# Altium footprint library RES.PcbLib: 37 footprints (part 3 of 3)
Each footprint in its own frame and in the unit in brackets; x right, y up, seen from the top. Pads: shape width x height; smd on the part's side, far side on the other; paste and mask are expansions set on the pad; w line width, h text height; cw(c..) or ccw(c..) is an arc to the next point about the centre after c.
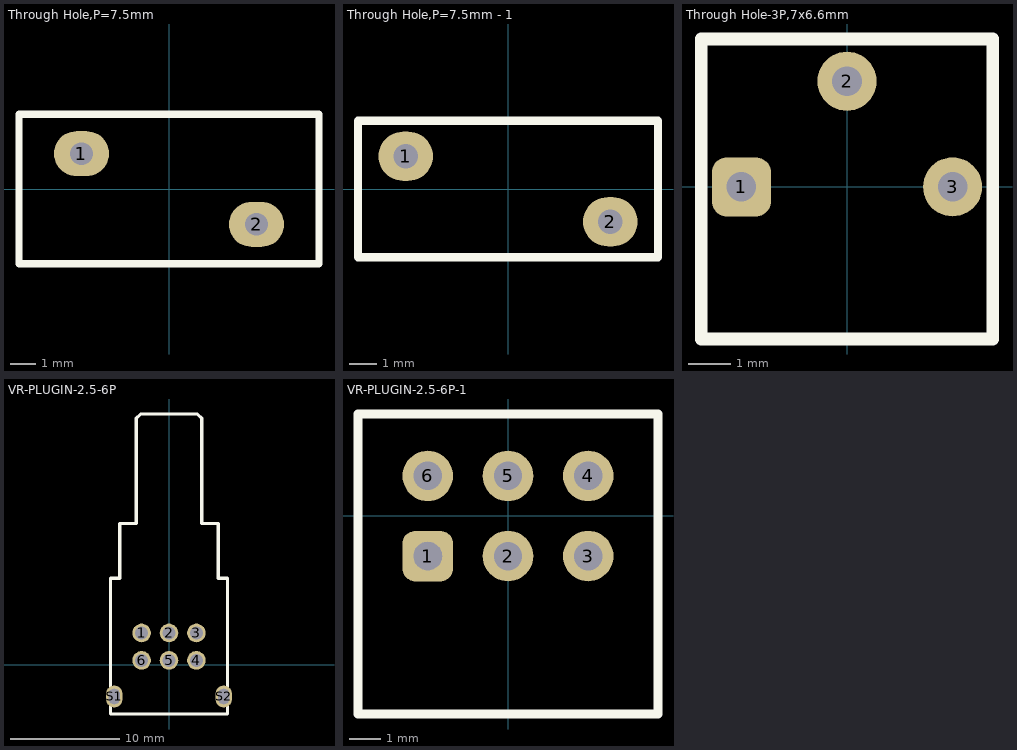
[diagram p2: the footprints below, top view; thin cyan lines are the x and y axes]

## Through Hole,P=7.5mm [mm]
pads (2):
  oval 2.2x1.8 hole 0.9 mask+0.2: 1(-3.5,1.415) 2(3.5,-1.415)
Top Overlay:
  lines w0.3: -6,-3 -6,3 6,3 6,-3 -6,-3
3D body "MOV-10D561K.step": height 16.5, standoff -16, extent -6.436,-2.695 6.436,2.695

## Through Hole,P=7.5mm - 1 [mm]
height 15.5
pads (2):
  oval 2x1.8 hole 0.9: 1(-3.75,1.2) 2(3.75,-1.2)
Top Overlay:
  lines w0.3: -5.5,-2.5 -5.5,2.5 5.5,2.5 5.5,-2.5 -5.5,-2.5

## Through Hole-3P,7x6.6mm [mm]
pads (3):
  rrect50% 1.4x1.4 hole 0.7: 1(-2.5,0)
  round 1.4 hole 0.7: 2(0,2.5) 3(2.5,0)
Top Overlay:
  lines w0.3: 1,3.5 3.45,3.5 ; 3.45,3.5 -3.45,3.5 -3.45,-3.6 3.45,-3.6 3.45,3.5
3D body "3362P-1-103--3DModel-STEP-56544.STEP": height 4.88, standoff -5.84, extent -3.3,-3.495 3.3,3.495

## VR-PLUGIN-2.5-6P [mm]
pads (8):
  round 1.7 hole 1.2: 1(-2.5,2.9) 2(0,2.9) 3(2.5,2.9) 4(2.5,0.4) 5(0,0.4) 6(-2.5,0.4)
  oval 1.5x2 hole 1 slot 1.4 at 90 deg: S1(-5,-2.9) S2(5,-2.9)
Top Overlay:
  lines w0.3: -5.35,-4.5 -5.35,7.9 -4.5,7.9 -4.5,12.9 -3,12.9 -3,22.5 -2.6,22.9 2.6,22.9 3,22.5 3,12.9 4.5,12.9 4.5,7.9 5.35,7.9 5.35,-4.5 -5.35,-4.5
3D body "rk09l12b0a31.stp": height 11.85, standoff -3.05, extent -6.05,-4.5 6.05,22.9

## VR-PLUGIN-2.5-6P-1 [mm]
pads (6):
  rrect50% 1.6x1.6 hole 0.9: 1(-2.54,-1.27)
  round 1.6 hole 0.9: 2(0,-1.27) 3(2.54,-1.27) 4(2.54,1.27) 5(0,1.27) 6(-2.54,1.27)
Top Overlay:
  lines w0.3: -4.75,-6.27 -4.75,3.23 4.75,3.23 4.75,-6.27 -4.75,-6.27
3D body "RK0972-L-15KC_N-5-green.step": height 12.8, standoff -3.5, extent -6,-21.25 6,3.3